# EAGLE library part 09564527612 (library 09564527612)
High Density D-Sub 62pin angled female with board locks, PL3, 4-40UNC threading Source: Datasheet <https://b2b.harting.com/files/download/PRD/PDF_DS/PDF_DS_09564527612_EN.pdf>
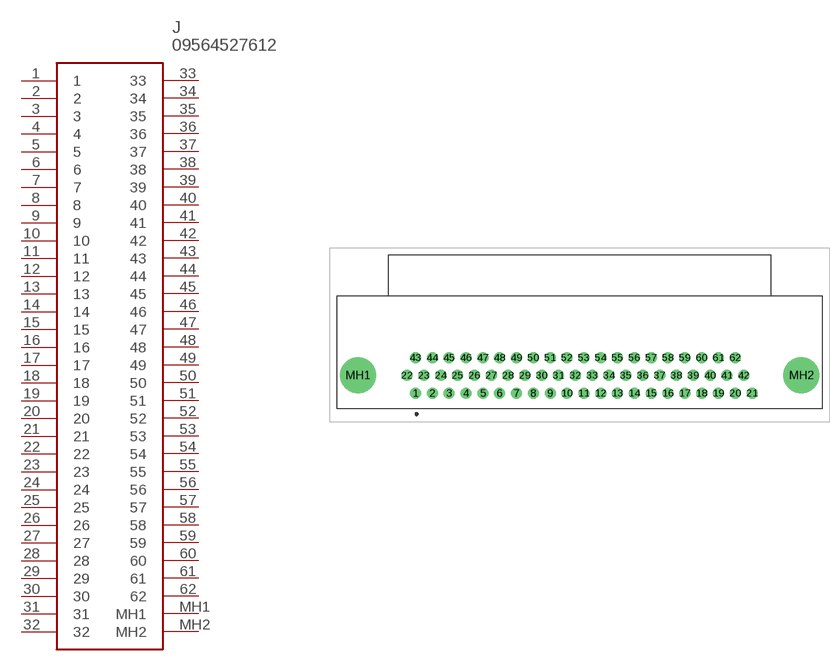
[diagram p0: symbol with the pads of 09564527612; footprint 09564527612]

Designator prefix J

## 09564527612 (Arrow_Part_Number: 09564527612; Arrow_Price-Stock: https://www.arrow.com/en/products/09564527612/harting?region=nac; Description: High Density D-Sub 62pin angled female with board locks, PL3, 4-40UNC threading; Height: 12.55mm; Manufacturer_Name: HARTING; Manufacturer_Part_Number: 09564527612; Mouser_Part_Number: 617-09-56-452-7612; Mouser_Price-Stock: https://www.mouser.co.uk/ProductDetail/HARTING/09564527612?qs=qa49y27LPCF1lnBrRUFxoA%3D%3D)  [09564527612]
1  1
2  2
3  3
4  4
5  5
6  6
7  7
8  8
9  9
10  10
11  11
12  12
13  13
14  14
15  15
16  16
17  17
18  18
19  19
20  20
21  21
22  22
23  23
24  24
25  25
26  26
27  27
28  28
29  29
30  30
31  31
32  32
33  33
34  34
35  35
36  36
37  37
38  38
39  39
40  40
41  41
42  42
43  43
44  44
45  45
46  46
47  47
48  48
49  49
50  50
51  51
52  52
53  53
54  54
55  55
56  56
57  57
58  58
59  59
60  60
61  61
62  62
MH1  MH1
MH2  MH2

## Footprint 09564527612 (pad centres in mm)
09564527612-3
drill 1.05 pad 1.575: 1 0,0; 2 2.41,0; 3 4.82,0; 4 7.23,0; 5 9.64,0; 6 12.05,0; 7 14.46,0; 8 16.87,0; 9 19.28,0; 10 21.69,0; 11 24.1,0; 12 26.51,0; 13 28.92,0; 14 31.33,0; 15 33.74,0; 16 36.15,0; 17 38.56,0; 18 40.97,0; 19 43.38,0; 20 45.79,0; 21 48.2,0; 22 -1.205,2.54; 23 1.205,2.54; 24 3.615,2.54; 25 6.025,2.54; 26 8.435,2.54; 27 10.845,2.54; 28 13.255,2.54; 29 15.665,2.54; 30 18.075,2.54; 31 20.485,2.54; 32 22.895,2.54; 33 25.305,2.54; 34 27.715,2.54; 35 30.125,2.54; 36 32.535,2.54; 37 34.945,2.54; 38 37.355,2.54; 39 39.765,2.54; 40 42.175,2.54; 41 44.585,2.54; 42 46.995,2.54; 43 0,5.08; 44 2.41,5.08; 45 4.82,5.08; 46 7.23,5.08; 47 9.64,5.08; 48 12.05,5.08; 49 14.46,5.08; 50 16.87,5.08; 51 19.28,5.08; 52 21.69,5.08; 53 24.1,5.08; 54 26.51,5.08; 55 28.92,5.08; 56 31.33,5.08; 57 33.74,5.08; 58 36.15,5.08; 59 38.56,5.08; 60 40.97,5.08; 61 43.38,5.08; 62 45.79,5.08
drill 3.45 pad 5.175: MH1 -8.253,2.54; MH2 55.248,2.54